# Altium footprint library Diode.PcbLib: 1 footprints
Each footprint in its own frame and in the unit in brackets; x right, y up, seen from the top. Pads: shape width x height; smd on the part's side, far side on the other; paste and mask are expansions set on the pad; w line width, h text height; cw(c..) or ccw(c..) is an arc to the next point about the centre after c.
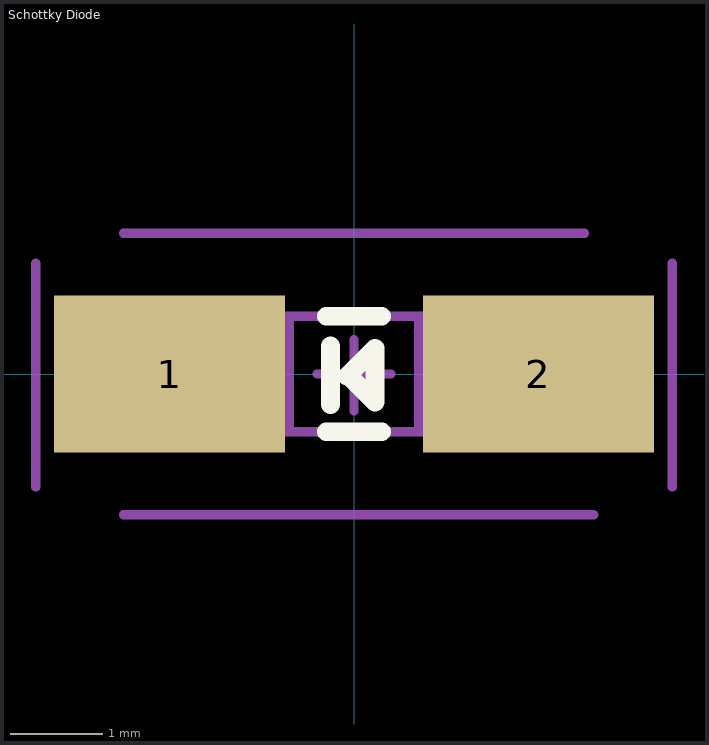
[diagram p0: the footprint, top view; thin cyan lines are the x and y axes]

## Schottky Diode [mm]
height 2.3
pads (2):
  rect 2.5x1.7 smd: 1(-2,0) 2(2,0)
Top Overlay:
  lines w0.2: -0.3,-0.625 0.3,-0.625 ; -0.3,0.625 0.3,0.625
  lines w0.203: -0.254,-0.33 -0.254,0.305 ; -0.076,-0.025 0.229,0.279 0.229,-0.305 -0.051,-0.025
Mechanical 13:
  lines w0.1: -0.7,-0.625 -0.7,0.625 ; 0.7,-0.625 0.7,0.625 ; -1,-0.625 -1,0.625 1,0.625 1,-0.625 -1,-0.625
Mechanical 15:
  lines w0.1: -3.449,-1.225 -3.449,1.2 ; -2.5,-1.525 2.6,-1.525 ; -2.5,1.525 2.5,1.525 ; -0.4,0 0.4,0 ; 0,-0.4 0,0.375 ; 3.449,-1.225 3.449,1.2
3D body: height 2.3, standoff 0.2, extent -2.3,-1.45 2.3,1.45
3D body: height 1.2, standoff 0, extent -2.6,-0.8 -2.3,0.8
3D body: height 1.2, standoff 0, extent 2.3,-0.8 2.6,0.8